# EAGLE library part SS-7188S-A-NF (library SS-7188S-A-NF)
Modular Jack | CAT5E | Horizontal (90) | 8P 8C | NF Shielded Check prices <https://pricing.snapeda.com/parts/SS-7188S-A-NF/Stewart%20Connector/view-part?ref=eda>
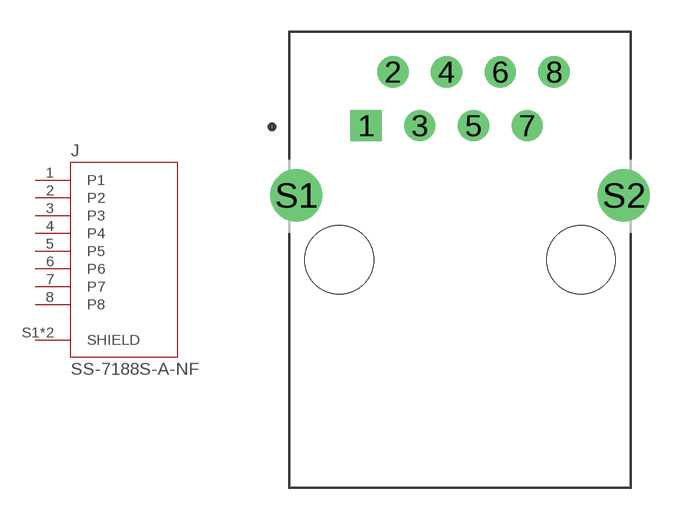
[diagram p0: symbol with the pads of BEL_SS-7188S-A-NF; footprint BEL_SS-7188S-A-NF]

Designator prefix J

## SS-7188S-A-NF (AVAILABILITY: Warning; DESCRIPTION: Jack Modular Connector 8p8c (RJ45, Ethernet) 90° Angle (Right) Shielded Cat5e; MF: Stewart Connector; MP: SS-7188S-A-NF; PACKAGE: None; PRICE: None; PURCHASE-URL: https://pricing.snapeda.com/search/part/SS-7188S-A-NF/?ref=eda)  [BEL_SS-7188S-A-NF]
1  P1  pas
2  P2  pas
3  P3  pas
4  P4  pas
5  P5  pas
6  P6  pas
7  P7  pas
8  P8  pas
S1  SHIELD  pas
S2  SHIELD  pas

## Footprint BEL_SS-7188S-A-NF (pad centres in mm)
drill 0.97 square: 1 -4.445,6.35
drill 0.97: 2 -3.175,8.89; 3 -1.905,6.35; 4 -0.635,8.89; 5 0.635,6.35; 6 1.905,8.89; 7 3.175,6.35; 8 4.445,8.89
drill 1.65: S1 -7.745,3.05; S2 7.745,3.05
hole 3.25 at 5.715,0
hole 3.25 at -5.715,0